# Altium schematic symbol library SI2301.SchLib: 1 symbol
Pins are listed as number, name and electrical type; pins without a type are passive.

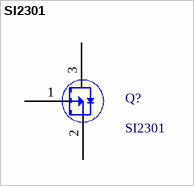
[diagram p0: symbol SI2301]

## SI2301
designator Q?
footprint SI2301 (SOT23, 3-Leads, Body 2.90x2.45mm, Pitch 0.95mm, IPC Medium Density)
pins: 1 D, 2 S, 3 D